# Altium footprint library SSW-105-01-L-D.PcbLib: 1 footprints
Each footprint in its own frame and in the unit in brackets; x right, y up, seen from the top. Pads: shape width x height; smd on the part's side, far side on the other; paste and mask are expansions set on the pad; w line width, h text height; cw(c..) or ccw(c..) is an arc to the next point about the centre after c.
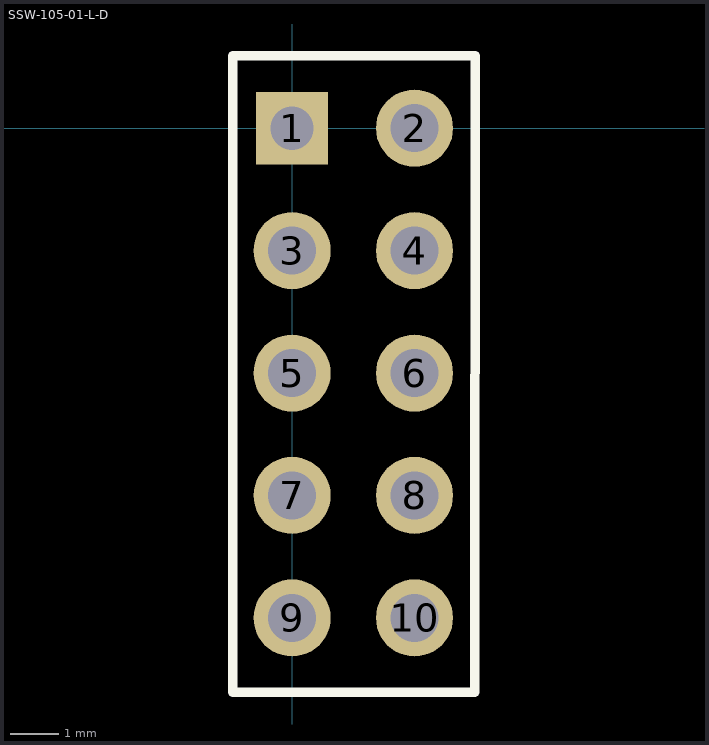
[diagram p0: the footprint, top view; thin cyan lines are the x and y axes]

## SSW-105-01-L-D [mm]
pads (10):
  rect 1.5x1.5 hole 0.9: 1(0,0)
  round 1.6 hole 1 mask+0.05: 2(2.54,0) 3(0,-2.54) 4(2.54,-2.54) 5(0,-5.08) 6(2.54,-5.08) 7(0,-7.62) 8(2.54,-7.62) 9(0,-10.16) 10(2.54,-10.16)
Top Overlay:
  lines w0.2: -1.23,-11.7 3.79,-11.7 3.8,1.5 -1.23,1.5 -1.23,-11.7
Top Assembly:
  lines w0.05: -1.23,-11.7 3.79,-11.7 3.8,1.5 -1.23,1.5 -1.23,-11.7
Top Courtyard:
  lines w0.05: -1.23,-11.7 3.79,-11.7 3.8,1.5 -1.23,1.5 -1.23,-11.7
3D body "SSW-105-01-L-D.stp": height 8.51, standoff -2.64, extent -1.176,-11.704 3.777,1.504